# EAGLE library part BCR420UW6-7 (library Smile_Shade)
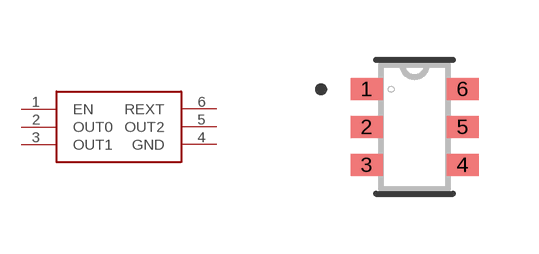
[diagram p14: symbol with the pads of SOT26; footprint SOT26]

Designator prefix -

## BCR420UW6-7  [SOT26]
1  EN
2  OUT0
3  OUT1
4  GND
5  OUT2
6  REXT

## Footprint SOT26 (pad centres in mm)
smd 0.8 x 0.55: 1 -1.2,0.95; 2 -1.2,0; 3 -1.2,-0.95; 4 1.2,-0.95; 5 1.2,0; 6 1.2,0.95